# Altium schematic symbol library force_sensor_lib.SchLib: 2 symbols
Pins are listed as number, name and electrical type; pins without a type are passive.

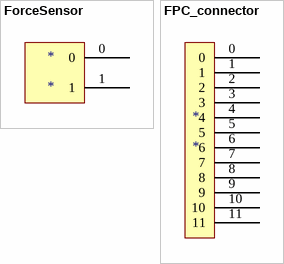
[diagram p0: symbols ForceSensor to FPC_connector]

## ForceSensor
designator *
footprint sensor_connector
pins: 0, 1

## FPC_connector
designator *
footprint FPC_connector
pins: 0, 1, 2, 3, 4, 5, 6, 7, 8, 9, 10, 11